# EAGLE library part OMAP3530_CUS (library Rizeni dvirek)
OMAP 3530/25 Applications Processor 600-MHz ARM Cortex?-A8 Core Auto generated by make-symbol-device-package-bsdl.ulp Rev. 23 Source: sprm314.bsd
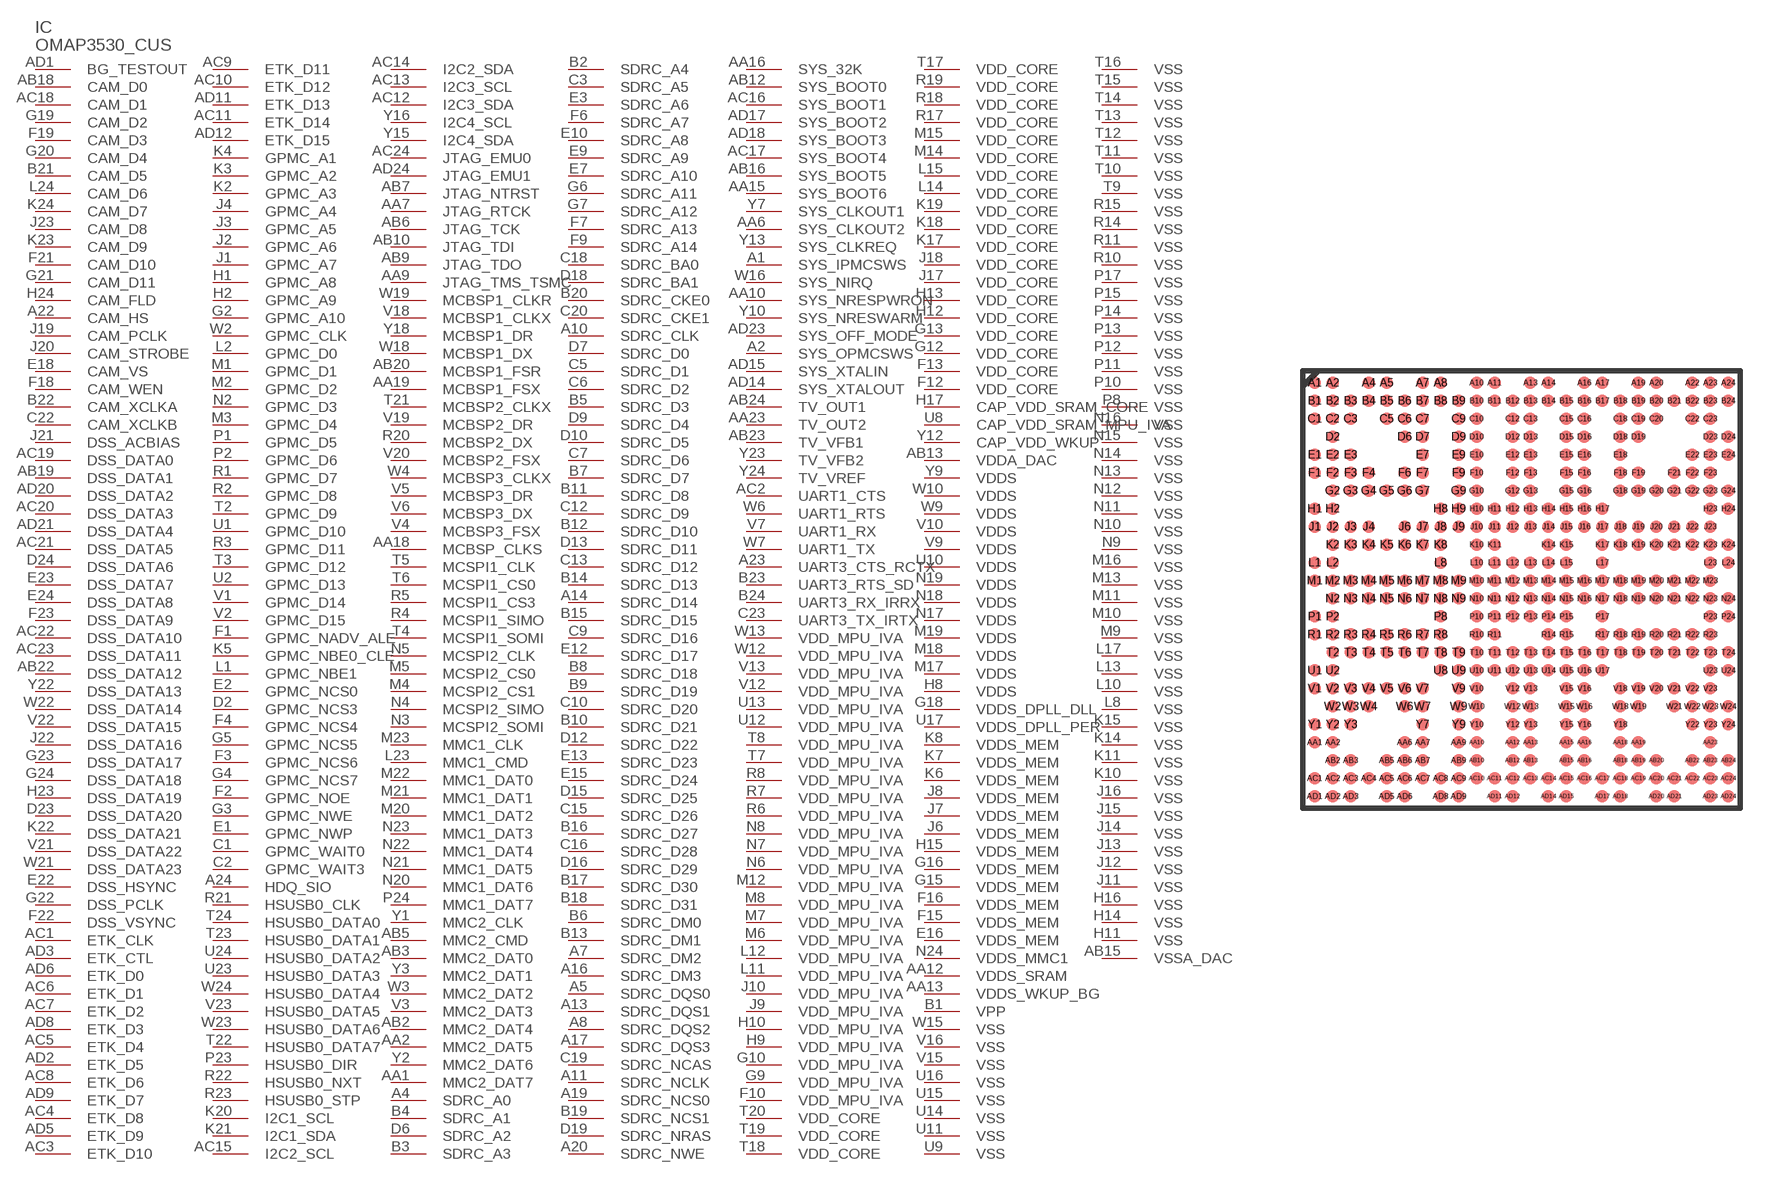
[diagram p42: symbol with the pads of CUS; footprint CUS]

Designator prefix IC

## OMAP3530_CUS  [CUS]
A1  SYS_IPMCSWS  pas
A2  SYS_OPMCSWS  pas
A4  SDRC_A0  out
A5  SDRC_DQS0  pas
A7  SDRC_DM2  out
A8  SDRC_DQS2  pas
A10  SDRC_CLK  pas
A11  SDRC_NCLK  pas
A13  SDRC_DQS1  pas
A14  SDRC_D14
A16  SDRC_DM3  out
A17  SDRC_DQS3  pas
A19  SDRC_NCS0  out
A20  SDRC_NWE  out
A22  CAM_HS
A23  UART3_CTS_RCTX
A24  HDQ_SIO
AA1  MMC2_DAT7
AA2  MMC2_DAT5
AA6  SYS_CLKOUT2
AA7  JTAG_RTCK  pas
AA9  JTAG_TMS_TSMC  in
AA10  SYS_NRESPWRON  pas
AA12  VDDS_SRAM  pwr
AA13  VDDS_WKUP_BG  pwr
AA15  SYS_BOOT6
AA16  SYS_32K  pas
AA18  MCBSP_CLKS
AA19  MCBSP1_FSX
AA23  TV_OUT2  pas
AB2  MMC2_DAT4
AB3  MMC2_DAT0
AB5  MMC2_CMD
AB6  JTAG_TCK  in
AB7  JTAG_NTRST  in
AB9  JTAG_TDO  out
AB10  JTAG_TDI  in
AB12  SYS_BOOT0
AB13  VDDA_DAC  pwr
AB15  VSSA_DAC  pwr
AB16  SYS_BOOT5
AB18  CAM_D0
AB19  DSS_DATA1
AB20  MCBSP1_FSR
AB22  DSS_DATA12
AB23  TV_VFB1  pas
AB24  TV_OUT1  pas
AC1  ETK_CLK
AC2  UART1_CTS
AC3  ETK_D10
AC4  ETK_D8
AC5  ETK_D4
AC6  ETK_D1
AC7  ETK_D2
AC8  ETK_D6
AC9  ETK_D11
AC10  ETK_D12
AC11  ETK_D14
AC12  I2C3_SDA
AC13  I2C3_SCL
AC14  I2C2_SDA
AC15  I2C2_SCL
AC16  SYS_BOOT1
AC17  SYS_BOOT4
AC18  CAM_D1
AC19  DSS_DATA0
AC20  DSS_DATA3
AC21  DSS_DATA5
AC22  DSS_DATA10
AC23  DSS_DATA11
AC24  JTAG_EMU0  pas
AD1  BG_TESTOUT
AD2  ETK_D5
AD3  ETK_CTL
AD5  ETK_D9
AD6  ETK_D0
AD8  ETK_D3
AD9  ETK_D7
AD11  ETK_D13
AD12  ETK_D15
AD14  SYS_XTALOUT  pas
AD15  SYS_XTALIN  pas
AD17  SYS_BOOT2
AD18  SYS_BOOT3
AD20  DSS_DATA2
AD21  DSS_DATA4
AD23  SYS_OFF_MODE
AD24  JTAG_EMU1  pas
B1  VPP  pas
B2  SDRC_A4  out
B3  SDRC_A3  out
B4  SDRC_A1  out
B5  SDRC_D3
B6  SDRC_DM0  out
B7  SDRC_D7
B8  SDRC_D18
B9  SDRC_D19
B10  SDRC_D21
B11  SDRC_D8
B12  SDRC_D10
B13  SDRC_DM1  out
B14  SDRC_D13
B15  SDRC_D15
B16  SDRC_D27
B17  SDRC_D30
B18  SDRC_D31
B19  SDRC_NCS1  out
B20  SDRC_CKE0  out
B21  CAM_D5
B22  CAM_XCLKA
B23  UART3_RTS_SD
B24  UART3_RX_IRRX
C1  GPMC_WAIT0  in
C2  GPMC_WAIT3
C3  SDRC_A5  out
C5  SDRC_D1
C6  SDRC_D2
C7  SDRC_D6
C9  SDRC_D16
C10  SDRC_D20
C12  SDRC_D9
C13  SDRC_D12
C15  SDRC_D26
C16  SDRC_D28
C18  SDRC_BA0  out
C19  SDRC_NCAS  out
C20  SDRC_CKE1  out
C22  CAM_XCLKB
C23  UART3_TX_IRTX
D2  GPMC_NCS3
D6  SDRC_A2  out
D7  SDRC_D0
D9  SDRC_D4
D10  SDRC_D5
D12  SDRC_D22
D13  SDRC_D11
D15  SDRC_D25
D16  SDRC_D29
D18  SDRC_BA1  out
D19  SDRC_NRAS  out
D23  DSS_DATA20
D24  DSS_DATA6
E1  GPMC_NWP
E2  GPMC_NCS0  out
E3  SDRC_A6  out
E7  SDRC_A10  out
E9  SDRC_A9  out
E10  SDRC_A8  out
E12  SDRC_D17
E13  SDRC_D23
E15  SDRC_D24
E16  VDDS_MEM  pwr
E18  CAM_VS
E22  DSS_HSYNC
E23  DSS_DATA7
E24  DSS_DATA8
F1  GPMC_NADV_ALE  out
F2  GPMC_NOE  out
F3  GPMC_NCS6
F4  GPMC_NCS4
F6  SDRC_A7  out
F7  SDRC_A13  out
F9  SDRC_A14  out
F10  VDD_MPU_IVA  pwr
F12  VDD_CORE  pwr
F13  VDD_CORE  pwr
F15  VDDS_MEM  pwr
F16  VDDS_MEM  pwr
F18  CAM_WEN
F19  CAM_D3
F21  CAM_D10
F22  DSS_VSYNC
F23  DSS_DATA9
G2  GPMC_A10
G3  GPMC_NWE  out
G4  GPMC_NCS7
G5  GPMC_NCS5
G6  SDRC_A11  out
G7  SDRC_A12  out
G9  VDD_MPU_IVA  pwr
G10  VDD_MPU_IVA  pwr
G12  VDD_CORE  pwr
G13  VDD_CORE  pwr
G15  VDDS_MEM  pwr
G16  VDDS_MEM  pwr
G18  VDDS_DPLL_DLL  pwr
G19  CAM_D2
G20  CAM_D4
G21  CAM_D11
G22  DSS_PCLK
G23  DSS_DATA17
G24  DSS_DATA18
H1  GPMC_A8
H2  GPMC_A9
H8  VDDS  pwr
H9  VDD_MPU_IVA  pwr
H10  VDD_MPU_IVA  pwr
H11  VSS  pwr
H12  VDD_CORE  pwr
H13  VDD_CORE  pwr
H14  VSS  pwr
H15  VDDS_MEM  pwr
H16  VSS  pwr
H17  CAP_VDD_SRAM_CORE  pwr
H23  DSS_DATA19
H24  CAM_FLD
J1  GPMC_A7
J2  GPMC_A6
J3  GPMC_A5
J4  GPMC_A4
J6  VDDS_MEM  pwr
J7  VDDS_MEM  pwr
J8  VDDS_MEM  pwr
J9  VDD_MPU_IVA  pwr
J10  VDD_MPU_IVA  pwr
J11  VSS  pwr
J12  VSS  pwr
J13  VSS  pwr
J14  VSS  pwr
J15  VSS  pwr
J16  VSS  pwr
J17  VDD_CORE  pwr
J18  VDD_CORE  pwr
J19  CAM_PCLK
J20  CAM_STROBE
J21  DSS_ACBIAS
J22  DSS_DATA16
J23  CAM_D8
K2  GPMC_A3
K3  GPMC_A2
K4  GPMC_A1
K5  GPMC_NBE0_CLE
K6  VDDS_MEM  pwr
K7  VDDS_MEM  pwr
K8  VDDS_MEM  pwr
K10  VSS  pwr
K11  VSS  pwr
K14  VSS  pwr
K15  VSS  pwr
K17  VDD_CORE  pwr
K18  VDD_CORE  pwr
K19  VDD_CORE  pwr
K20  I2C1_SCL
K21  I2C1_SDA
K22  DSS_DATA21
K23  CAM_D9
K24  CAM_D7
L1  GPMC_NBE1
L2  GPMC_D0
L8  VSS  pwr
L10  VSS  pwr
L11  VDD_MPU_IVA  pwr
L12  VDD_MPU_IVA  pwr
L13  VSS  pwr
L14  VDD_CORE  pwr
L15  VDD_CORE  pwr
L17  VSS  pwr
L23  MMC1_CMD
L24  CAM_D6
M1  GPMC_D1
M2  GPMC_D2
M3  GPMC_D4
M4  MCSPI2_CS1
M5  MCSPI2_CS0
M6  VDD_MPU_IVA  pwr
M7  VDD_MPU_IVA  pwr
M8  VDD_MPU_IVA  pwr
M9  VSS  pwr
M10  VSS  pwr
M11  VSS  pwr
M12  VDD_MPU_IVA  pwr
M13  VSS  pwr
M14  VDD_CORE  pwr
M15  VDD_CORE  pwr
M16  VSS  pwr
M17  VDDS  pwr
M18  VDDS  pwr
M19  VDDS  pwr
M20  MMC1_DAT2
M21  MMC1_DAT1
M22  MMC1_DAT0
M23  MMC1_CLK
N2  GPMC_D3
N3  MCSPI2_SOMI
N4  MCSPI2_SIMO
N5  MCSPI2_CLK
N6  VDD_MPU_IVA  pwr
N7  VDD_MPU_IVA  pwr
N8  VDD_MPU_IVA  pwr
N9  VSS  pwr
N10  VSS  pwr
N11  VSS  pwr
N12  VSS  pwr
N13  VSS  pwr
N14  VSS  pwr
N15  VSS  pwr
N16  VSS  pwr
N17  VDDS  pwr
N18  VDDS  pwr
N19  VDDS  pwr
N20  MMC1_DAT6
N21  MMC1_DAT5
N22  MMC1_DAT4
N23  MMC1_DAT3
N24  VDDS_MMC1  pwr
P1  GPMC_D5
P2  GPMC_D6
P8  VSS  pwr
P10  VSS  pwr
P11  VSS  pwr
P12  VSS  pwr
P13  VSS  pwr
P14  VSS  pwr
P15  VSS  pwr
P17  VSS  pwr
P23  HSUSB0_DIR
P24  MMC1_DAT7
R1  GPMC_D7
R2  GPMC_D8
R3  GPMC_D11
R4  MCSPI1_SIMO
R5  MCSPI1_CS3
R6  VDD_MPU_IVA  pwr
R7  VDD_MPU_IVA  pwr
R8  VDD_MPU_IVA  pwr
R10  VSS  pwr
R11  VSS  pwr
R14  VSS  pwr
R15  VSS  pwr
R17  VDD_CORE  pwr
R18  VDD_CORE  pwr
R19  VDD_CORE  pwr
R20  MCBSP2_DX
R21  HSUSB0_CLK
R22  HSUSB0_NXT
R23  HSUSB0_STP
T2  GPMC_D9
T3  GPMC_D12
T4  MCSPI1_SOMI
T5  MCSPI1_CLK
T6  MCSPI1_CS0
T7  VDD_MPU_IVA  pwr
T8  VDD_MPU_IVA  pwr
T9  VSS  pwr
T10  VSS  pwr
T11  VSS  pwr
T12  VSS  pwr
T13  VSS  pwr
T14  VSS  pwr
T15  VSS  pwr
T16  VSS  pwr
T17  VDD_CORE  pwr
T18  VDD_CORE  pwr
T19  VDD_CORE  pwr
T20  VDD_CORE  pwr
T21  MCBSP2_CLKX
T22  HSUSB0_DATA7
T23  HSUSB0_DATA1
T24  HSUSB0_DATA0
U1  GPMC_D10
U2  GPMC_D13
U8  CAP_VDD_SRAM_MPU_IVA  pwr
U9  VSS  pwr
U10  VDDS  pwr
U11  VSS  pwr
U12  VDD_MPU_IVA  pwr
U13  VDD_MPU_IVA  pwr
U14  VSS  pwr
U15  VSS  pwr
U16  VSS  pwr
U17  VDDS_DPLL_PER  pwr
U23  HSUSB0_DATA3
U24  HSUSB0_DATA2
V1  GPMC_D14
V2  GPMC_D15
V3  MMC2_DAT3
V4  MCBSP3_FSX
V5  MCBSP3_DR
V6  MCBSP3_DX
V7  UART1_RX
V9  VDDS  pwr
V10  VDDS  pwr
V12  VDD_MPU_IVA  pwr
V13  VDD_MPU_IVA  pwr
V15  VSS  pwr
V16  VSS  pwr
V18  MCBSP1_CLKX
V19  MCBSP2_DR
V20  MCBSP2_FSX
V21  DSS_DATA22
V22  DSS_DATA15
V23  HSUSB0_DATA5
W2  GPMC_CLK
W3  MMC2_DAT2
W4  MCBSP3_CLKX
W6  UART1_RTS
W7  UART1_TX
W9  VDDS  pwr
W10  VDDS  pwr
W12  VDD_MPU_IVA  pwr
W13  VDD_MPU_IVA  pwr
W15  VSS  pwr
W16  SYS_NIRQ
W18  MCBSP1_DX
W19  MCBSP1_CLKR
W21  DSS_DATA23
W22  DSS_DATA14
W23  HSUSB0_DATA6
W24  HSUSB0_DATA4
Y1  MMC2_CLK
Y2  MMC2_DAT6
Y3  MMC2_DAT1
Y7  SYS_CLKOUT1
Y9  VDDS  pwr
Y10  SYS_NRESWARM  pas
Y12  CAP_VDD_WKUP  pwr
Y13  SYS_CLKREQ
Y15  I2C4_SDA
Y16  I2C4_SCL
Y18  MCBSP1_DR
Y22  DSS_DATA13
Y23  TV_VFB2  pas
Y24  TV_VREF  pas

## Footprint CUS (pad centres in mm)
CUS (S-PBGA-N423) Auto generated by make-symbol-device-package-bsdl.ulp Rev. 23 Source: sprm314.bsd
smd 0.45 x 0.45: A1 -7.475,7.475; A2 -6.825,7.475; A4 -5.525,7.475; A5 -4.875,7.475; A7 -3.575,7.475; A8 -2.925,7.475; A10 -1.625,7.475; A11 -0.975,7.475; A13 0.325,7.475; A14 0.975,7.475; A16 2.275,7.475; A17 2.925,7.475; A19 4.225,7.475; A20 4.875,7.475; A22 6.175,7.475; A23 6.825,7.475; A24 7.475,7.475; AA1 -7.475,-5.525; AA2 -6.825,-5.525; AA6 -4.225,-5.525; AA7 -3.575,-5.525; AA9 -2.275,-5.525; AA10 -1.625,-5.525; AA12 -0.325,-5.525; AA13 0.325,-5.525; AA15 1.625,-5.525; AA16 2.275,-5.525; AA18 3.575,-5.525; AA19 4.225,-5.525; AA23 6.825,-5.525; AB2 -6.825,-6.175; AB3 -6.175,-6.175; AB5 -4.875,-6.175; AB6 -4.225,-6.175; AB7 -3.575,-6.175; AB9 -2.275,-6.175; AB10 -1.625,-6.175; AB12 -0.325,-6.175; AB13 0.325,-6.175; AB15 1.625,-6.175; AB16 2.275,-6.175; AB18 3.575,-6.175; AB19 4.225,-6.175; AB20 4.875,-6.175; AB22 6.175,-6.175; AB23 6.825,-6.175; AB24 7.475,-6.175; AC1 -7.475,-6.825; AC2 -6.825,-6.825; AC3 -6.175,-6.825; AC4 -5.525,-6.825; AC5 -4.875,-6.825; AC6 -4.225,-6.825; AC7 -3.575,-6.825; AC8 -2.925,-6.825; AC9 -2.275,-6.825; AC10 -1.625,-6.825; AC11 -0.975,-6.825; AC12 -0.325,-6.825; AC13 0.325,-6.825; AC14 0.975,-6.825; AC15 1.625,-6.825; AC16 2.275,-6.825; AC17 2.925,-6.825; AC18 3.575,-6.825; AC19 4.225,-6.825; AC20 4.875,-6.825; AC21 5.525,-6.825; AC22 6.175,-6.825; AC23 6.825,-6.825; AC24 7.475,-6.825; AD1 -7.475,-7.475; AD2 -6.825,-7.475; AD3 -6.175,-7.475; AD5 -4.875,-7.475; AD6 -4.225,-7.475; AD8 -2.925,-7.475; AD9 -2.275,-7.475; AD11 -0.975,-7.475; AD12 -0.325,-7.475; AD14 0.975,-7.475; AD15 1.625,-7.475; AD17 2.925,-7.475; AD18 3.575,-7.475; AD20 4.875,-7.475; AD21 5.525,-7.475; AD23 6.825,-7.475; AD24 7.475,-7.475; B1 -7.475,6.825; B2 -6.825,6.825; B3 -6.175,6.825; B4 -5.525,6.825; B5 -4.875,6.825; B6 -4.225,6.825; B7 -3.575,6.825; B8 -2.925,6.825; B9 -2.275,6.825; B10 -1.625,6.825; B11 -0.975,6.825; B12 -0.325,6.825; B13 0.325,6.825; B14 0.975,6.825; B15 1.625,6.825; B16 2.275,6.825; B17 2.925,6.825; B18 3.575,6.825; B19 4.225,6.825; B20 4.875,6.825; B21 5.525,6.825; B22 6.175,6.825; B23 6.825,6.825; B24 7.475,6.825; C1 -7.475,6.175; C2 -6.825,6.175; C3 -6.175,6.175; C5 -4.875,6.175; C6 -4.225,6.175; C7 -3.575,6.175; C9 -2.275,6.175; C10 -1.625,6.175; C12 -0.325,6.175; C13 0.325,6.175; C15 1.625,6.175; C16 2.275,6.175; C18 3.575,6.175; C19 4.225,6.175; C20 4.875,6.175; C22 6.175,6.175; C23 6.825,6.175; D2 -6.825,5.525; D6 -4.225,5.525; D7 -3.575,5.525; D9 -2.275,5.525; D10 -1.625,5.525; D12 -0.325,5.525; D13 0.325,5.525; D15 1.625,5.525; D16 2.275,5.525; D18 3.575,5.525; D19 4.225,5.525; D23 6.825,5.525; D24 7.475,5.525; E1 -7.475,4.875; E2 -6.825,4.875; E3 -6.175,4.875; E7 -3.575,4.875; E9 -2.275,4.875; E10 -1.625,4.875; E12 -0.325,4.875; E13 0.325,4.875; E15 1.625,4.875; E16 2.275,4.875; E18 3.575,4.875; E22 6.175,4.875; E23 6.825,4.875; E24 7.475,4.875; F1 -7.475,4.225; F2 -6.825,4.225; F3 -6.175,4.225; F4 -5.525,4.225; F6 -4.225,4.225; F7 -3.575,4.225; F9 -2.275,4.225; F10 -1.625,4.225; F12 -0.325,4.225; F13 0.325,4.225; F15 1.625,4.225; F16 2.275,4.225; F18 3.575,4.225; F19 4.225,4.225; F21 5.525,4.225; F22 6.175,4.225; F23 6.825,4.225; G2 -6.825,3.575; G3 -6.175,3.575; G4 -5.525,3.575; G5 -4.875,3.575; G6 -4.225,3.575; G7 -3.575,3.575; G9 -2.275,3.575; G10 -1.625,3.575; G12 -0.325,3.575; G13 0.325,3.575; G15 1.625,3.575; G16 2.275,3.575; G18 3.575,3.575; G19 4.225,3.575; G20 4.875,3.575; G21 5.525,3.575; G22 6.175,3.575; G23 6.825,3.575; G24 7.475,3.575; H1 -7.475,2.925; H2 -6.825,2.925; H8 -2.925,2.925; H9 -2.275,2.925; H10 -1.625,2.925; H11 -0.975,2.925; H12 -0.325,2.925; H13 0.325,2.925; H14 0.975,2.925; H15 1.625,2.925; H16 2.275,2.925; H17 2.925,2.925; H23 6.825,2.925; H24 7.475,2.925; J1 -7.475,2.275; J2 -6.825,2.275; J3 -6.175,2.275; J4 -5.525,2.275; J6 -4.225,2.275; J7 -3.575,2.275; J8 -2.925,2.275; J9 -2.275,2.275; J10 -1.625,2.275; J11 -0.975,2.275; J12 -0.325,2.275; J13 0.325,2.275; J14 0.975,2.275; J15 1.625,2.275; J16 2.275,2.275; J17 2.925,2.275; J18 3.575,2.275; J19 4.225,2.275; J20 4.875,2.275; J21 5.525,2.275; J22 6.175,2.275; J23 6.825,2.275; K2 -6.825,1.625; K3 -6.175,1.625; K4 -5.525,1.625; K5 -4.875,1.625; K6 -4.225,1.625; K7 -3.575,1.625; K8 -2.925,1.625; K10 -1.625,1.625; K11 -0.975,1.625; K14 0.975,1.625; K15 1.625,1.625; K17 2.925,1.625; K18 3.575,1.625; K19 4.225,1.625; K20 4.875,1.625; K21 5.525,1.625; K22 6.175,1.625; K23 6.825,1.625; K24 7.475,1.625; L1 -7.475,0.975; L2 -6.825,0.975; L8 -2.925,0.975; L10 -1.625,0.975; L11 -0.975,0.975; L12 -0.325,0.975; L13 0.325,0.975; L14 0.975,0.975; L15 1.625,0.975; L17 2.925,0.975; L23 6.825,0.975; L24 7.475,0.975; M1 -7.475,0.325; M2 -6.825,0.325; M3 -6.175,0.325; M4 -5.525,0.325; M5 -4.875,0.325; M6 -4.225,0.325; M7 -3.575,0.325; M8 -2.925,0.325; M9 -2.275,0.325; M10 -1.625,0.325; M11 -0.975,0.325; M12 -0.325,0.325; M13 0.325,0.325; M14 0.975,0.325; M15 1.625,0.325; M16 2.275,0.325; M17 2.925,0.325; M18 3.575,0.325; M19 4.225,0.325; M20 4.875,0.325; M21 5.525,0.325; M22 6.175,0.325; M23 6.825,0.325; N2 -6.825,-0.325; N3 -6.175,-0.325; N4 -5.525,-0.325; N5 -4.875,-0.325; N6 -4.225,-0.325; N7 -3.575,-0.325; N8 -2.925,-0.325; N9 -2.275,-0.325; N10 -1.625,-0.325; N11 -0.975,-0.325; N12 -0.325,-0.325; N13 0.325,-0.325; N14 0.975,-0.325; N15 1.625,-0.325; N16 2.275,-0.325; N17 2.925,-0.325; N18 3.575,-0.325; N19 4.225,-0.325; N20 4.875,-0.325; N21 5.525,-0.325; N22 6.175,-0.325; N23 6.825,-0.325; N24 7.475,-0.325; P1 -7.475,-0.975; P2 -6.825,-0.975; P8 -2.925,-0.975; P10 -1.625,-0.975; P11 -0.975,-0.975; P12 -0.325,-0.975; P13 0.325,-0.975; P14 0.975,-0.975; P15 1.625,-0.975; P17 2.925,-0.975; P23 6.825,-0.975; P24 7.475,-0.975; R1 -7.475,-1.625; R2 -6.825,-1.625; R3 -6.175,-1.625; R4 -5.525,-1.625; R5 -4.875,-1.625; R6 -4.225,-1.625; R7 -3.575,-1.625; R8 -2.925,-1.625; R10 -1.625,-1.625; R11 -0.975,-1.625; R14 0.975,-1.625; R15 1.625,-1.625; R17 2.925,-1.625; R18 3.575,-1.625; R19 4.225,-1.625; R20 4.875,-1.625; R21 5.525,-1.625; R22 6.175,-1.625; R23 6.825,-1.625; T2 -6.825,-2.275; T3 -6.175,-2.275; T4 -5.525,-2.275; T5 -4.875,-2.275; T6 -4.225,-2.275; T7 -3.575,-2.275; T8 -2.925,-2.275; T9 -2.275,-2.275; T10 -1.625,-2.275; T11 -0.975,-2.275; T12 -0.325,-2.275; T13 0.325,-2.275; T14 0.975,-2.275; T15 1.625,-2.275; T16 2.275,-2.275; T17 2.925,-2.275; T18 3.575,-2.275; T19 4.225,-2.275; T20 4.875,-2.275; T21 5.525,-2.275; T22 6.175,-2.275; T23 6.825,-2.275; T24 7.475,-2.275; U1 -7.475,-2.925; U2 -6.825,-2.925; U8 -2.925,-2.925; U9 -2.275,-2.925; U10 -1.625,-2.925; U11 -0.975,-2.925; U12 -0.325,-2.925; U13 0.325,-2.925; U14 0.975,-2.925; U15 1.625,-2.925; U16 2.275,-2.925; U17 2.925,-2.925; U23 6.825,-2.925; U24 7.475,-2.925; V1 -7.475,-3.575; V2 -6.825,-3.575; V3 -6.175,-3.575; V4 -5.525,-3.575; V5 -4.875,-3.575; V6 -4.225,-3.575; V7 -3.575,-3.575; V9 -2.275,-3.575; V10 -1.625,-3.575; V12 -0.325,-3.575; V13 0.325,-3.575; V15 1.625,-3.575; V16 2.275,-3.575; V18 3.575,-3.575; V19 4.225,-3.575; V20 4.875,-3.575; V21 5.525,-3.575; V22 6.175,-3.575; V23 6.825,-3.575; W2 -6.825,-4.225; W3 -6.175,-4.225; W4 -5.525,-4.225; W6 -4.225,-4.225; W7 -3.575,-4.225; W9 -2.275,-4.225; W10 -1.625,-4.225; W12 -0.325,-4.225; W13 0.325,-4.225; W15 1.625,-4.225; W16 2.275,-4.225; W18 3.575,-4.225; W19 4.225,-4.225; W21 5.525,-4.225; W22 6.175,-4.225; W23 6.825,-4.225; W24 7.475,-4.225; Y1 -7.475,-4.875; Y2 -6.825,-4.875; Y3 -6.175,-4.875; Y7 -3.575,-4.875; Y9 -2.275,-4.875; Y10 -1.625,-4.875; Y12 -0.325,-4.875; Y13 0.325,-4.875; Y15 1.625,-4.875; Y16 2.275,-4.875; Y18 3.575,-4.875; Y22 6.175,-4.875; Y23 6.825,-4.875; Y24 7.475,-4.875